# Altium footprint library PJ-327C.PcbLib: 1 footprints
Each footprint in its own frame and in the unit in brackets; x right, y up, seen from the top. Pads: shape width x height; smd on the part's side, far side on the other; paste and mask are expansions set on the pad; w line width, h text height; cw(c..) or ccw(c..) is an arc to the next point about the centre after c.
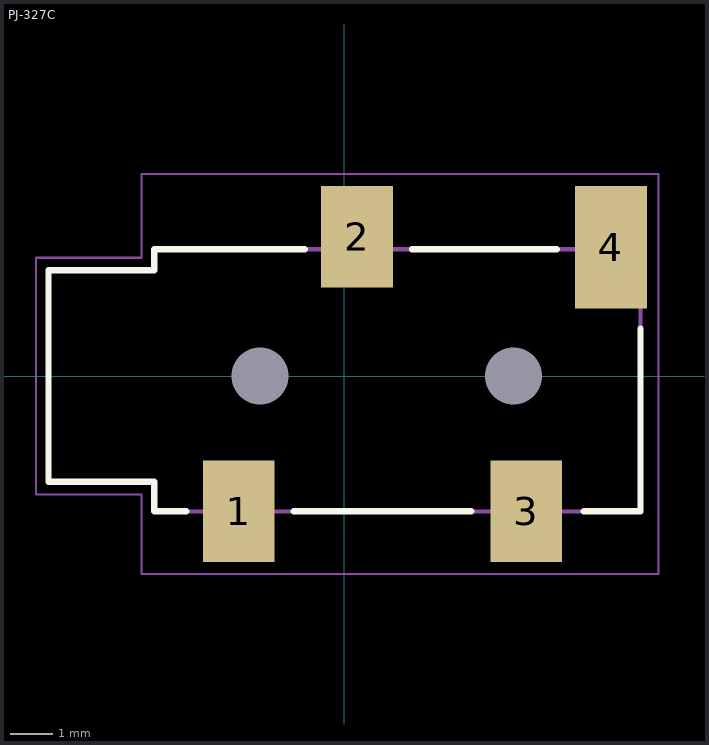
[diagram p0: the footprint, top view; thin cyan lines are the x and y axes]

## PJ-327C [mm]
height 5
pads (6):
  rect 0x0 hole 1.35 unplated: 0(-2,0) 0(4,0)
  rect 1.7x2.4 smd: 1(-2.5,-3.2) 2(0.3,3.3) 3(4.3,-3.2)
  rect 1.7x2.9 smd: 4(6.3,3.05)
Top Overlay:
  lines w0.152: -3.738,-3.2 -4.5,-3.2 -4.5,-2.5 -7,-2.5 -7,0 -7,2.5 -4.5,2.5 -4.5,3 -0.944,3 ; -1.198,-3.2 2.993,-3.2 ; 1.596,3 5.025,3 ; 5.66,-3.2 7,-3.2 7,1.118
Mechanical 13:
  lines w0.1: -7,-2.5 -4.5,-2.5 -4.5,-3.2 7,-3.2 7,3 -4.5,3 -4.5,2.5 -7,2.5 -7,0 -7,-2.5
Mechanical 15:
  lines w0.05: -7.3,-2.8 -7.3,0 -7.3,2.8 -4.8,2.8 -4.8,4.78 7.43,4.78 7.43,-4.68 -4.8,-4.68 -4.8,-2.8 -7.3,-2.8
3D body: height 5, standoff -0.6, extent -6.98,-4.073 7.02,4.127